# EAGLE library part STM32F411XC (library stm32f411)
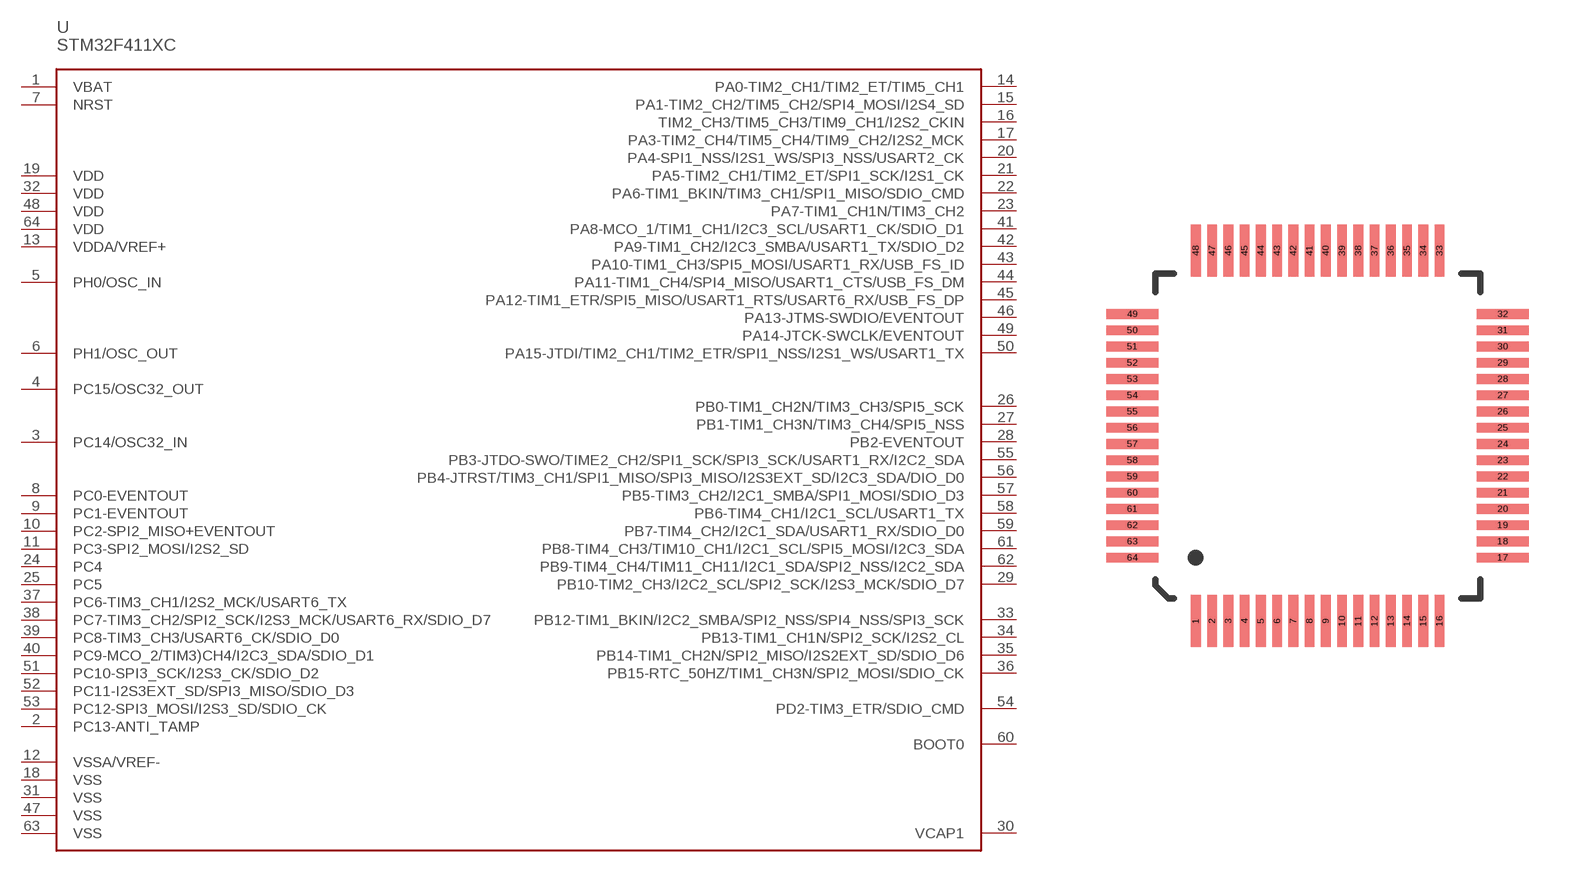
[diagram p0: symbol with the pads of LQFP64; footprint LQFP64]

Designator prefix -

## STM32F411XC  [LQFP64]
1  VBAT
2  PC13-ANTI_TAMP
3  PC14/OSC32_IN
4  PC15/OSC32_OUT
5  PH0/OSC_IN
6  PH1/OSC_OUT
7  NRST
8  PC0-EVENTOUT
9  PC1-EVENTOUT
10  PC2-SPI2_MISO+EVENTOUT
11  PC3-SPI2_MOSI/I2S2_SD
12  VSSA/VREF-
13  VDDA/VREF+
14  PA0-TIM2_CH1/TIM2_ET/TIM5_CH1
15  PA1-TIM2_CH2/TIM5_CH2/SPI4_MOSI/I2S4_SD
16  TIM2_CH3/TIM5_CH3/TIM9_CH1/I2S2_CKIN
17  PA3-TIM2_CH4/TIM5_CH4/TIM9_CH2/I2S2_MCK
18  VSS
19  VDD
20  PA4-SPI1_NSS/I2S1_WS/SPI3_NSS/USART2_CK
21  PA5-TIM2_CH1/TIM2_ET/SPI1_SCK/I2S1_CK
22  PA6-TIM1_BKIN/TIM3_CH1/SPI1_MISO/SDIO_CMD
23  PA7-TIM1_CH1N/TIM3_CH2
24  PC4
25  PC5
26  PB0-TIM1_CH2N/TIM3_CH3/SPI5_SCK
27  PB1-TIM1_CH3N/TIM3_CH4/SPI5_NSS
28  PB2-EVENTOUT
29  PB10-TIM2_CH3/I2C2_SCL/SPI2_SCK/I2S3_MCK/SDIO_D7
30  VCAP1
31  VSS
32  VDD
33  PB12-TIM1_BKIN/I2C2_SMBA/SPI2_NSS/SPI4_NSS/SPI3_SCK
34  PB13-TIM1_CH1N/SPI2_SCK/I2S2_CL
35  PB14-TIM1_CH2N/SPI2_MISO/I2S2EXT_SD/SDIO_D6
36  PB15-RTC_50HZ/TIM1_CH3N/SPI2_MOSI/SDIO_CK
37  PC6-TIM3_CH1/I2S2_MCK/USART6_TX
38  PC7-TIM3_CH2/SPI2_SCK/I2S3_MCK/USART6_RX/SDIO_D7
39  PC8-TIM3_CH3/USART6_CK/SDIO_D0
40  PC9-MCO_2/TIM3)CH4/I2C3_SDA/SDIO_D1
41  PA8-MCO_1/TIM1_CH1/I2C3_SCL/USART1_CK/SDIO_D1
42  PA9-TIM1_CH2/I2C3_SMBA/USART1_TX/SDIO_D2
43  PA10-TIM1_CH3/SPI5_MOSI/USART1_RX/USB_FS_ID
44  PA11-TIM1_CH4/SPI4_MISO/USART1_CTS/USB_FS_DM
45  PA12-TIM1_ETR/SPI5_MISO/USART1_RTS/USART6_RX/USB_FS_DP
46  PA13-JTMS-SWDIO/EVENTOUT
47  VSS
48  VDD
49  PA14-JTCK-SWCLK/EVENTOUT
50  PA15-JTDI/TIM2_CH1/TIM2_ETR/SPI1_NSS/I2S1_WS/USART1_TX
51  PC10-SPI3_SCK/I2S3_CK/SDIO_D2
52  PC11-I2S3EXT_SD/SPI3_MISO/SDIO_D3
53  PC12-SPI3_MOSI/I2S3_SD/SDIO_CK
54  PD2-TIM3_ETR/SDIO_CMD
55  PB3-JTDO-SWO/TIME2_CH2/SPI1_SCK/SPI3_SCK/USART1_RX/I2C2_SDA
56  PB4-JTRST/TIM3_CH1/SPI1_MISO/SPI3_MISO/I2S3EXT_SD/I2C3_SDA/DIO_D0
57  PB5-TIM3_CH2/I2C1_SMBA/SPI1_MOSI/SDIO_D3
58  PB6-TIM4_CH1/I2C1_SCL/USART1_TX
59  PB7-TIM4_CH2/I2C1_SDA/USART1_RX/SDIO_D0
60  BOOT0
61  PB8-TIM4_CH3/TIM10_CH1/I2C1_SCL/SPI5_MOSI/I2C3_SDA
62  PB9-TIM4_CH4/TIM11_CH11/I2C1_SDA/SPI2_NSS/I2C2_SDA
63  VSS
64  VDD

## Footprint LQFP64 (pad centres in mm)
smd 0.3 x 1.6: 1 -3.75,-5.7; 2 -3.25,-5.7; 3 -2.75,-5.7; 4 -2.25,-5.7; 5 -1.75,-5.7; 6 -1.25,-5.7; 7 -0.75,-5.7; 8 -0.25,-5.7; 9 0.25,-5.7; 10 0.75,-5.7; 11 1.25,-5.7; 12 1.75,-5.7; 13 2.25,-5.7; 14 2.75,-5.7; 15 3.25,-5.7; 16 3.75,-5.7; 33 3.75,5.7; 34 3.25,5.7; 35 2.75,5.7; 36 2.25,5.7; 37 1.75,5.7; 38 1.25,5.7; 39 0.75,5.7; 40 0.25,5.7; 41 -0.25,5.7; 42 -0.75,5.7; 43 -1.25,5.7; 44 -1.75,5.7; 45 -2.25,5.7; 46 -2.75,5.7; 47 -3.25,5.7; 48 -3.75,5.7
smd 1.6 x 0.3: 17 5.7,-3.75; 18 5.7,-3.25; 19 5.7,-2.75; 20 5.7,-2.25; 21 5.7,-1.75; 22 5.7,-1.25; 23 5.7,-0.75; 24 5.7,-0.25; 25 5.7,0.25; 26 5.7,0.75; 27 5.7,1.25; 28 5.7,1.75; 29 5.7,2.25; 30 5.7,2.75; 31 5.7,3.25; 32 5.7,3.75; 49 -5.7,3.75; 50 -5.7,3.25; 51 -5.7,2.75; 52 -5.7,2.25; 53 -5.7,1.75; 54 -5.7,1.25; 55 -5.7,0.75; 56 -5.7,0.25; 57 -5.7,-0.25; 58 -5.7,-0.75; 59 -5.7,-1.25; 60 -5.7,-1.75; 61 -5.7,-2.25; 62 -5.7,-2.75; 63 -5.7,-3.25; 64 -5.7,-3.75